# EAGLE library part MTA06-100 (library Szymon.Sochaj_schemat2)
AMP connector Connection corrected 2014-09-19
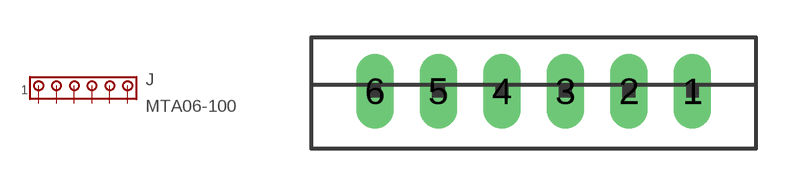
[diagram p2: symbol with the pads of 10X06MTA; footprint 10X06MTA]

Designator prefix J

## MTA06-100  [10X06MTA]
1  1  pas
2  2  pas
3  3  pas
4  4  pas
5  5  pas
6  6  pas

## Footprint 10X06MTA (pad centres in mm)
AMP MTA connector Source: http://ecommas.tycoelectronics.com .. ENG_CD_640456_W.pdf
drill 1 long: 1 5.08,1.016; 2 2.54,1.016; 3 0,1.016; 4 -2.54,1.016; 5 -5.08,1.016; 6 -7.62,1.016